# EAGLE library part DS1077 (library SparkFun)
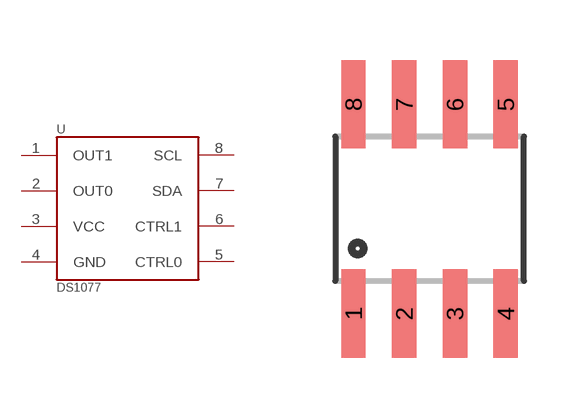
[diagram p188: symbol with the pads of SO08; footprint SO08]

Designator prefix -

## DS1077  [SO08]
1  OUT1
2  OUT0
3  VCC
4  GND
5  CTRL0
6  CTRL1
7  SDA
8  SCL

## Footprint SO08 (pad centres in mm)
Small Outline Package Fits JEDEC packages (narrow SOIC-8)
smd 0.61 x 2.21: 1 -1.905,-2.616; 2 -0.635,-2.616; 3 0.635,-2.616; 4 1.905,-2.616; 5 1.905,2.616; 6 0.635,2.616; 7 -0.635,2.616; 8 -1.905,2.616